# Altium footprint library SnapEDApcb.PcbLib: 1 footprints
Each footprint in its own frame and in the unit in brackets; x right, y up, seen from the top. Pads: shape width x height; smd on the part's side, far side on the other; paste and mask are expansions set on the pad; w line width, h text height; cw(c..) or ccw(c..) is an arc to the next point about the centre after c.
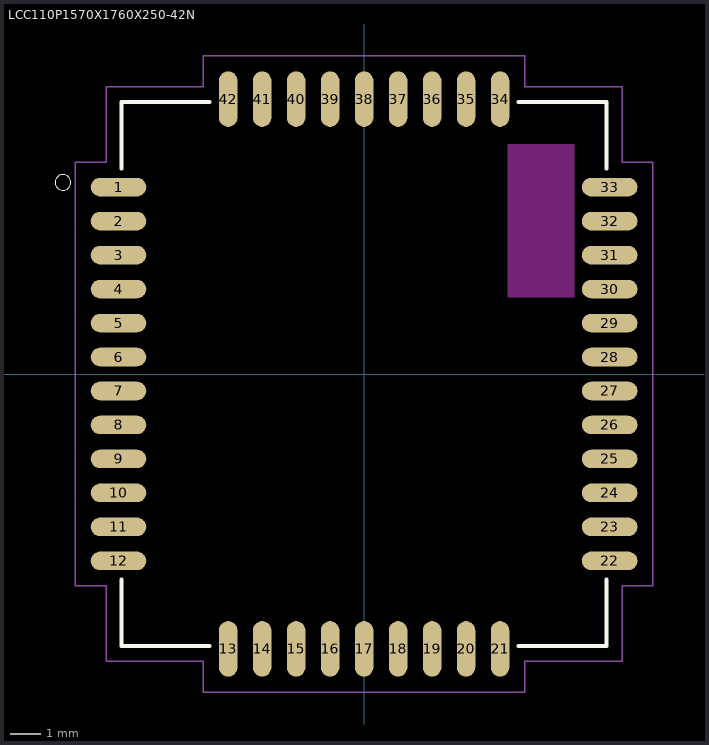
[diagram p0: the footprint, top view; thin cyan lines are the x and y axes]

## LCC110P1570X1760X250-42N [mm]
pads (42):
  oval 1.8x0.6 smd: 1(-7.95,6.05) 2(-7.95,4.95) 3(-7.95,3.85) 4(-7.95,2.75) 5(-7.95,1.65) 6(-7.95,0.55) 7(-7.95,-0.55) 8(-7.95,-1.65) 9(-7.95,-2.75) 10(-7.95,-3.85) 11(-7.95,-4.95) 12(-7.95,-6.05) 22(7.95,-6.05) 23(7.95,-4.95) 24(7.95,-3.85) 25(7.95,-2.75) 26(7.95,-1.65) 27(7.95,-0.55) 28(7.95,0.55) 29(7.95,1.65) 30(7.95,2.75) 31(7.95,3.85) 32(7.95,4.95) 33(7.95,6.05)
  oval 0.6x1.8 smd: 13(-4.4,-8.9) 14(-3.3,-8.9) 15(-2.2,-8.9) 16(-1.1,-8.9) 17(0,-8.9) 18(1.1,-8.9) 19(2.2,-8.9) 20(3.3,-8.9) 21(4.4,-8.9) 34(4.4,8.9) 35(3.3,8.9) 36(2.2,8.9) 37(1.1,8.9) 38(0,8.9) 39(-1.1,8.9) 40(-2.2,8.9) 41(-3.3,8.9) 42(-4.4,8.9)
Top Overlay:
  circle w0: c-9.75,6.2 r0.254
  lines w0.127: -7.85,-6.65 -7.85,-8.8 -5,-8.8 ; -7.85,6.65 -7.85,8.8 -5,8.8 ; 5,-8.8 7.85,-8.8 7.85,-6.65 ; 5,8.8 7.85,8.8 7.85,6.65
Keep-Out Layer:
  region: 6.8,2.483 4.656,2.483 4.656,7.43 6.8,7.43
Mechanical 15:
  lines w0.05: -9.35,-6.85 -9.35,6.85 -8.35,6.85 -8.35,9.3 -5.2,9.3 -5.2,10.3 5.2,10.3 5.2,9.3 8.35,9.3 8.35,6.85 9.35,6.85 9.35,-6.85 8.35,-6.85 8.35,-9.3 5.2,-9.3 5.2,-10.3 -5.2,-10.3 -5.2,-9.3 -8.35,-9.3 -8.35,-6.85 -9.35,-6.85